# Altium footprint library SO20-SPE-MCP2200.PcbLib: 1 footprints
Each footprint in its own frame and in the unit in brackets; x right, y up, seen from the top. Pads: shape width x height; smd on the part's side, far side on the other; paste and mask are expansions set on the pad; w line width, h text height; cw(c..) or ccw(c..) is an arc to the next point about the centre after c.
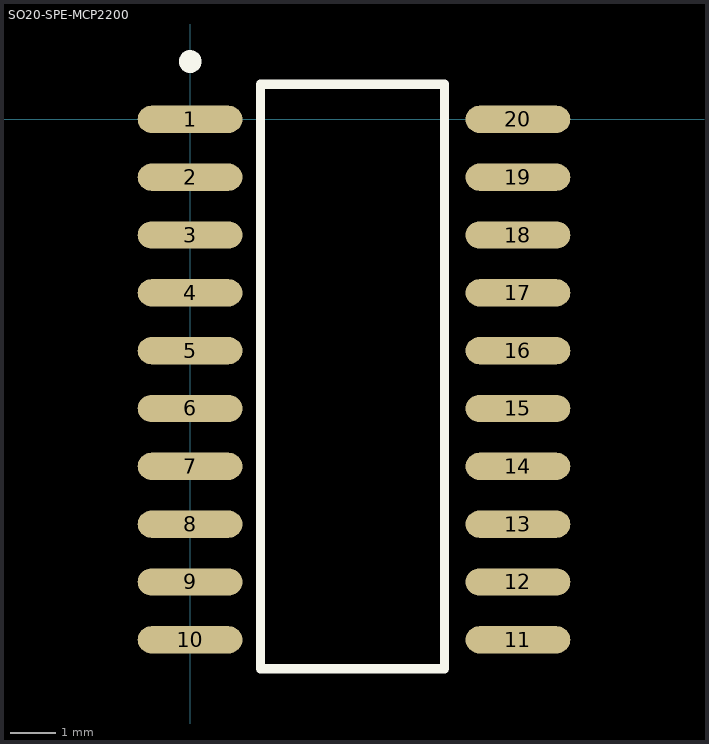
[diagram p0: the footprint, top view; thin cyan lines are the x and y axes]

## SO20-SPE-MCP2200 [mm]
height 1.75
pads (20):
  oval 2.3x0.6 smd: 1(0,0) 2(0,-1.27) 3(0,-2.54) 4(0,-3.81) 5(0,-5.08) 6(0,-6.35) 7(0,-7.62) 8(0,-8.89) 9(0,-10.16) 10(0,-11.43) 11(7.2,-11.43) 12(7.2,-10.16) 13(7.2,-8.89) 14(7.2,-7.62) 15(7.2,-6.35) 16(7.2,-5.08) 17(7.2,-3.81) 18(7.2,-2.54) 19(7.2,-1.27) 20(7.2,0)
Top Overlay:
  circle w0.25: c0.002,1.27 r0.125
  lines w0.2: 5.588,0.77 1.55,0.77 1.55,-12.065 5.588,-12.065 5.588,0.778
3D body: height 2, standoff 0, extent -0.217,-12.165 7.583,0.735